# Altium integrated library ADCs_DACs_001.IntLib: 5 symbols
Pins are listed as number, name and electrical type; pins without a type are passive.

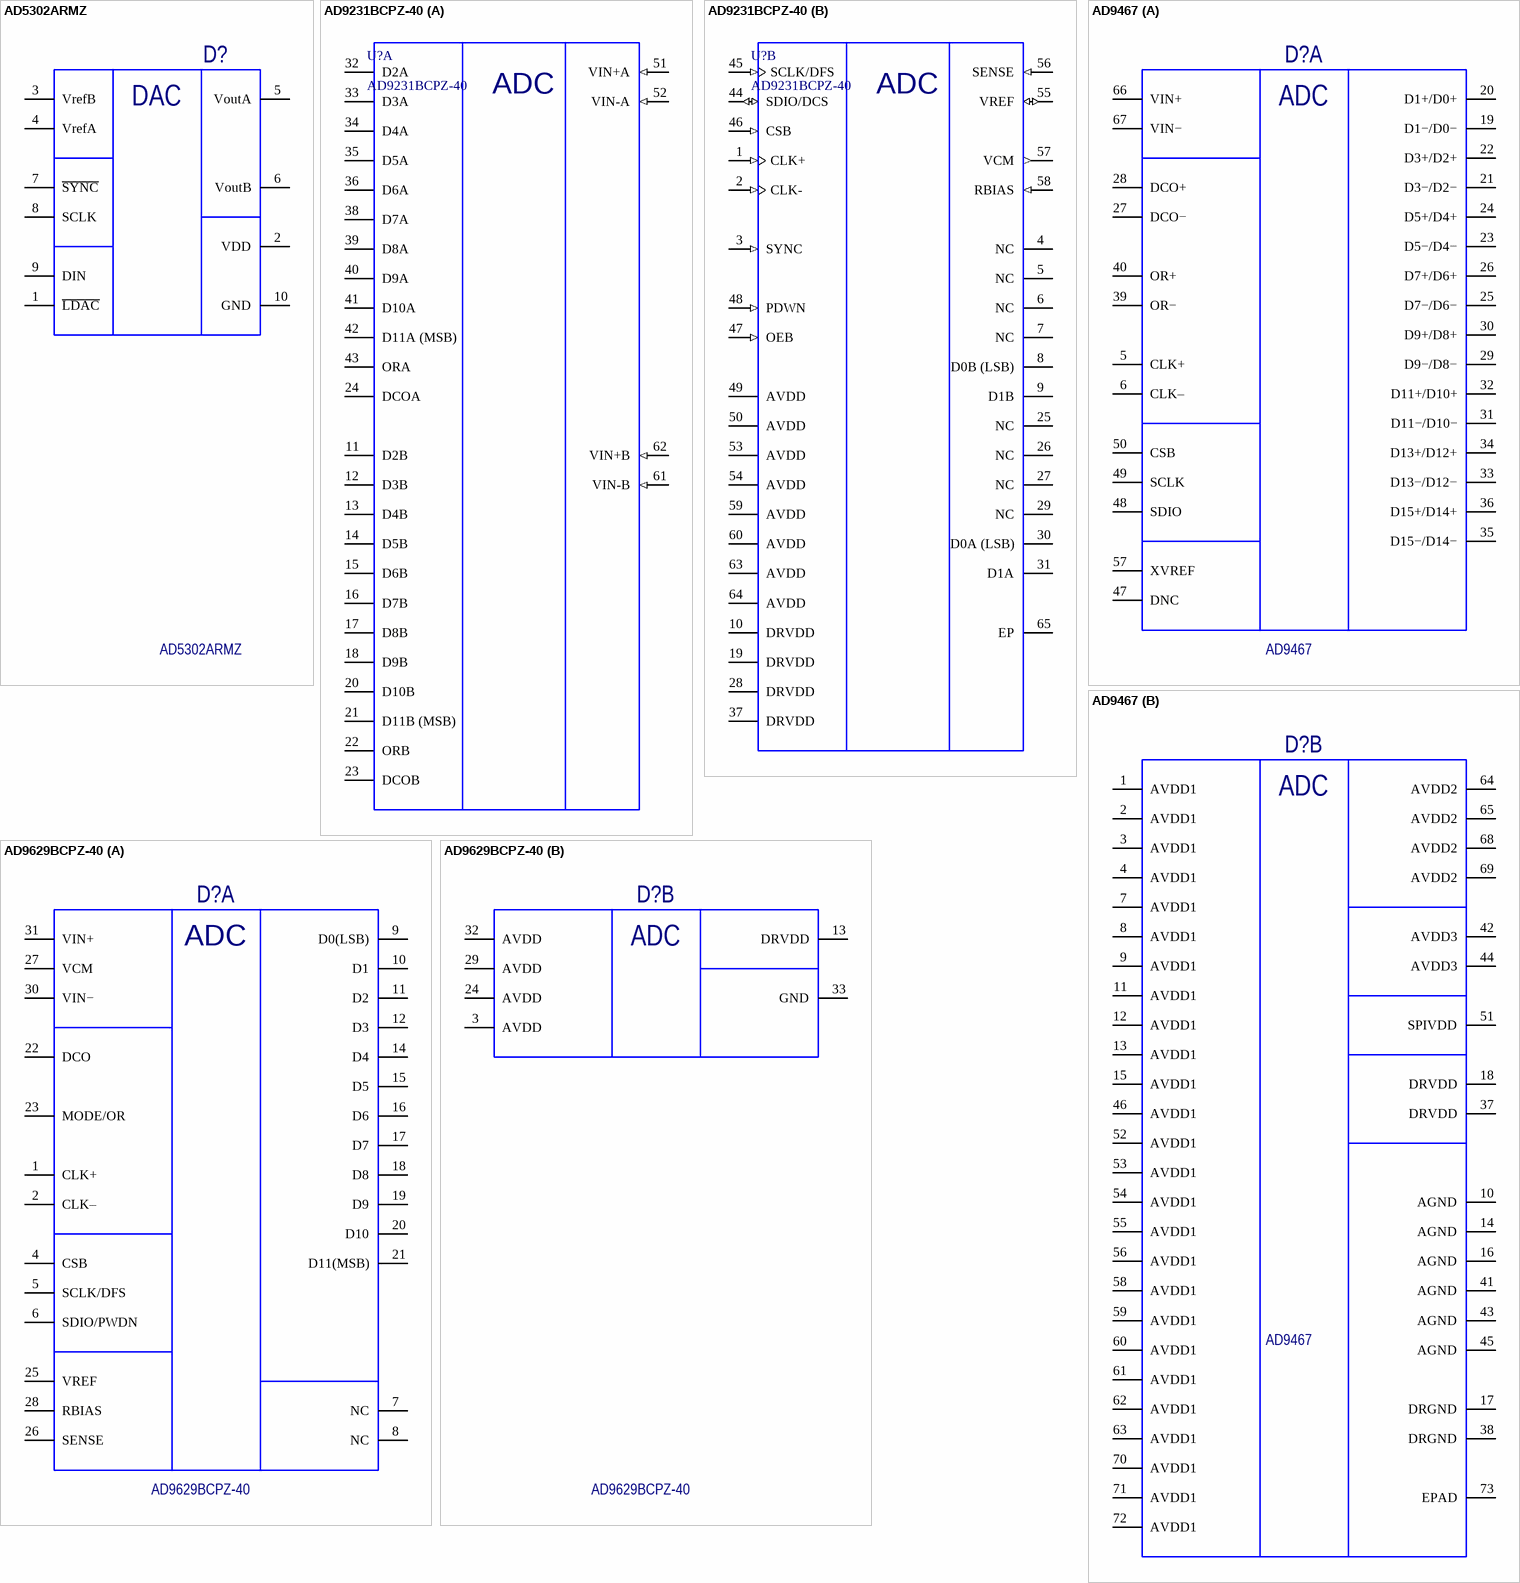
[diagram p0: symbols AD5302ARMZ to AD9629BCPZ-40]

## AD5302ARMZ
designator D?
Digital to Analog Converters - DAC DUAL 8-BIT VOLTAGE OUT DAC I.C.; Vender: Analog Devices; ВП Описание: Микросхема_AD5302ARMZ; Наименование: Микросхема; Part Number: AD5302ARMZ; ComponentLink1Description: DataSheet; ComponentLink1URL: https://eu.mouser.com/datasheet/2/609/AD5302_5312_5322-1501583.pdf; StandartDoc: Analog Devices; ComponentLink2Description: Manufacturer; ComponentLink2URL: https://www.analog.com/en/index.html; ComponentLink3Description: DatasheetLocal; ComponentLink3URL: D:\Work\Altium_Library\NewArcomLibrary\Datasheets\AnalogDevices\AD5302_5312_5322-1501583.pdf; Value: AD5302ARMZ; Manufacturer: Analog Devices; Manufacturer P/N: AD5302ARMZ; Part: AD5302ARMZ
footprint SOP50P490X110-10N
pins: 1 ~{LDAC}, 2 VDD, 3 VrefB, 4 VrefA, 5 VoutA, 6 VoutB, 7 ~{SYNC}, 8 SCLK, 9 DIN, 10 GND
text: DAC

## AD9231BCPZ-40
designator U?
Analog to Digital Converters - ADC 12 Bit, 40 MSPS Dual Low Power ADC; Manufacturer: Analog Devices; ComponentLink1Description: Manufacturer; ComponentLink1URL: http://www.analog.com/; ComponentLink2Description: Datasheet; ComponentLink2URL: https://www.analog.com/media/en/technical-documentation/data-sheets/AD9231.pdf; Manufacturer P/N: AD9231BCPZ-40; Part: AD9231BCPZ-40; Family: Chip
footprint CP-64-4_L (QFN, 64-Leads, Body 9x9mm, Pitch 0.5mm, Thermal Pad 6.2x6.2mm, IPC High Density)
footprint CP-64-4_M (QFN, 64-Leads, Body 9x9mm, Pitch 0.5mm, Thermal Pad 6.2x6.2mm, IPC Low Density)
footprint CP-64-4_N (QFN, 64-Leads, Body 9x9mm, Pitch 0.5mm, Thermal Pad 6.2x6.2mm, IPC Medium Density)
part A pins: 11 D2B (hiz) "Channel B Digital Outputs.D9B = MSB.", 12 D3B (hiz) "Channel B Digital Outputs.D9B = MSB.", 13 D4B (hiz) "Channel B Digital Outputs.D9B = MSB.", 14 D5B (hiz) "Channel B Digital Outputs.D9B = MSB.", 15 D6B (hiz) "Channel B Digital Outputs.D9B = MSB.", 16 D7B (hiz) "Channel B Digital Outputs.D9B = MSB.", 17 D8B (hiz) "Channel B Digital Outputs.D9B = MSB.", 18 D9B (hiz) "Channel B Digital Outputs.D9B = MSB.", 20 D10B (hiz) "Channel B Digital Outputs.D9B = MSB.", 21 D11B (MSB) (hiz) "Channel B Digital Outputs.D9B = MSB.", 22 ORB (hiz) "Channel B Out-of-Range Digital Output.", 23 DCOB (hiz) "Channel B Data Clock Digital Output.", 24 DCOA (hiz) "Channel A Data Clock Digital Output.", 32 D2A (hiz) "Channel A Digital Outputs.D9A = MSB.", 33 D3A (hiz) "Channel A Digital Outputs.D9A = MSB.", 34 D4A (hiz) "Channel A Digital Outputs.D9A = MSB.", 35 D5A (hiz) "Channel A Digital Outputs.D9A = MSB.", 36 D6A (hiz) "Channel A Digital Outputs.D9A = MSB.", 38 D7A (hiz) "Channel A Digital Outputs.D9A = MSB.", 39 D8A (hiz) "Channel A Digital Outputs.D9A = MSB.", 40 D9A (hiz) "Channel A Digital Outputs.D9A = MSB.", 41 D10A (hiz) "Channel A Digital Outputs.D9A = MSB.", 42 D11A (MSB) (hiz) "Channel A Digital Outputs.D9A = MSB.", 43 ORA (hiz) "Channel A Out-of-Range Digital Output.", 51 VIN+A (in) "Channel A Analog Inputs.", 52 VIN-A (in) "Channel A Analog Inputs.", 61 VIN-B (in) "Channel B Analog Inputs.", 62 VIN+B (in) "Channel B Analog Inputs."
part B pins: 1 CLK+ (in) "Differential Encode Clock. PECL, LVDS, or 1.8 V CMOS inputs.", 2 CLK- (in) "Differential Encode Clock. PECL, LVDS, or 1.8 V CMOS inputs.", 3 SYNC (in) "Digital Input. SYNC input to clock divider. 30 k ohm internal pull-down", 4 NC "Do Not Connect.", 5 NC "Do Not Connect.", 6 NC "Do Not Connect.", 7 NC "Do Not Connect.", 8 D0B (LSB) "Do Not Connect.", 9 D1B "Do Not Connect.", 10 DRVDD (power) "Digital Output Driver Supply (1.8 V to 3.3 V).", 19 DRVDD (power) "Digital Output Driver Supply (1.8 V to 3.3 V).", 25 NC "Do Not Connect.", 26 NC "Do Not Connect.", 27 NC "Do Not Connect.", 28 DRVDD (power) "Digital Output Driver Supply (1.8 V to 3.3 V).", 29 NC "Do Not Connect.", 30 D0A (LSB) "Do Not Connect.", 31 D1A "Do Not Connect.", 37 DRVDD (power) "Digital Output Driver Supply (1.8 V to 3.3 V).", 44 SDIO/DCS (io) "SPI Data Input/Output (SDIO). Bidirectional SPI Data I/O in SPI mode. 30 k ohm internal pulldown in SPI mode.  Duty Cycle Stabilizer (DCS). Static enable input for duty cycle stabilizer in non-SPI mode. 30 k ohm  internal (See Datasheet)", 45 SCLK/DFS (in) "SPI Clock (SCLK) Input in SPI mode. 30 k ohm internal pull-down.Data Format Select (DFS). Static control of data output format in non-SPI mode. 30 kO internal pull-down.DFS high = twos complement output.  DFS low = offset (See Datasheet)", 46 CSB (in) "SPI Chip Select. Active low enable; 30 k ohm internal pull-up", 47 OEB (in) "Digital Input. Enable Channel A and Channel B digital outputs if low, three-state outputs if high. 30 kohm internal pull-down.", 48 PDWN (in) "Digital Input. 30 kohm internal pull-down.PDWN high = power-down device.PDWN low = run device, normal operation.", 49 AVDD (power) "1.8 V Analog Supply Pins", 50 AVDD (power) "1.8 V Analog Supply Pins", 53 AVDD (power) "1.8 V Analog Supply Pins", 54 AVDD (power) "1.8 V Analog Supply Pins", 55 VREF (io) "Voltage Reference Input/Output", 56 SENSE (in) "Reference Mode Selection", 57 VCM (out) "Analog output voltage at midsupply to set common mode of the analog inputs.", 58 RBIAS (in) "Sets Analog Current Bias. Connect to 10 kohm (1% tolerance) resistor to ground.", 59 AVDD (power) "1.8 V Analog Supply Pins", 60 AVDD (power) "1.8 V Analog Supply Pins", 63 AVDD (power) "1.8 V Analog Supply Pins", 64 AVDD (power) "1.8 V Analog Supply Pins", 65 EP (power) "Exposed paddle is the only ground connection for the chip. Must be connected to PCB AGND."
part A text: ADC
part B text: ADC

## AD9467
designator D?
Analog to Digital Converters - ADC 16 Bit 250 MSPS ADC; Part Number: AD9467BCPZ-250; Vender: Analog Devices; ВП Описание: Микросхема_AD9467BCPZ-250; Наименование: Микросхема; Value: AD9467; ComponentLink1Description: DataSheet; ComponentLink1URL: d:\Projects\Altium_Components_Lib\Component Data Base\ADC\AD\AD9467.pdf; StandartDoc: Analog Devices; Manufacturer: Analog Devices; Manufacturer P/N: AD9467BCPZ-250; Part: AD9467BCPZ-250
footprint ADI_CP-32-4_L (QFN, 32-Leads, Body 5x5mm, Pitch 0.5mm, Thermal Pad 3.5x3.5mm, IPC High Density)
footprint ADI_CP-32-4_M (QFN, 32-Leads, Body 5x5mm, Pitch 0.5mm, Thermal Pad 3.5x3.5mm, IPC Low Density)
footprint ADI_CP-32-4_N (QFN, 32-Leads, Body 5x5mm, Pitch 0.5mm, Thermal Pad 3.5x3.5mm, IPC Medium Density)
part A pins: 5 CLK+, 6 CLK–, 19 D1−/D0−, 20 D1+/D0+, 21 D3−/D2−, 22 D3+/D2+, 23 D5−/D4−, 24 D5+/D4+, 25 D7−/D6−, 26 D7+/D6+, 27 DCO−, 28 DCO+, 29 D9−/D8−, 30 D9+/D8+, 31 D11−/D10−, 32 D11+/D10+, 33 D13−/D12−, 34 D13+/D12+, 35 D15−/D14−, 36 D15+/D14+, 39 OR−, 40 OR+, 47 DNC, 48 SDIO, 49 SCLK, 50 CSB, 57 XVREF, 66 VIN+, 67 VIN−
part B pins: 1 AVDD1, 2 AVDD1, 3 AVDD1, 4 AVDD1, 7 AVDD1, 8 AVDD1, 9 AVDD1, 10 AGND, 11 AVDD1, 12 AVDD1, 13 AVDD1, 14 AGND, 15 AVDD1, 16 AGND, 17 DRGND, 18 DRVDD, 37 DRVDD, 38 DRGND, 41 AGND, 42 AVDD3, 43 AGND, 44 AVDD3, 45 AGND, 46 AVDD1, 51 SPIVDD, 52 AVDD1, 53 AVDD1, 54 AVDD1, 55 AVDD1, 56 AVDD1, 58 AVDD1, 59 AVDD1, 60 AVDD1, 61 AVDD1, 62 AVDD1, 63 AVDD1, 64 AVDD2, 65 AVDD2, 68 AVDD2, 69 AVDD2, 70 AVDD1, 71 AVDD1, 72 AVDD1, 73 EPAD
part A text: ADC
part B text: ADC

## AD9629BCPZ-40
designator D?
Analog to Digital Converters - ADC 12 Bit 40 Msps Low Pwr ADC; Vender: Analog Devices; ВП Описание: Микросхема_AD9629BCPZ-40; Наименование: Микросхема; Value: AD9629BCPZ-40; Part Number: AD9629BCPZ-40; ComponentLink1Description: DataSheet; StandartDoc: Analog Devices; Part: AD9629BCPZ-40; ComponentLink2Description: Manufacturer; ComponentLink2URL: *; ComponentLink3Description: DatasheetLocal; ComponentLink3URL: *; Manufacturer: Analog Devices; Manufacturer P/N: AD9629BCPZ-40
footprint ADI_CP-32-4_L (QFN, 32-Leads, Body 5x5mm, Pitch 0.5mm, Thermal Pad 3.5x3.5mm, IPC High Density)
footprint ADI_CP-32-4_M (QFN, 32-Leads, Body 5x5mm, Pitch 0.5mm, Thermal Pad 3.5x3.5mm, IPC Low Density)
footprint ADI_CP-32-4_N (QFN, 32-Leads, Body 5x5mm, Pitch 0.5mm, Thermal Pad 3.5x3.5mm, IPC Medium Density)
part A pins: 1 CLK+, 2 CLK–, 4 CSB, 5 SCLK/DFS, 6 SDIO/PWDN, 7 NC, 8 NC, 9 D0(LSB), 10 D1, 11 D2, 12 D3, 14 D4, 15 D5, 16 D6, 17 D7, 18 D8, 19 D9, 20 D10, 21 D11(MSB), 22 DCO, 23 MODE/OR, 25 VREF, 26 SENSE, 27 VCM, 28 RBIAS, 30 VIN−, 31 VIN+
part B pins: 3 AVDD, 13 DRVDD, 24 AVDD, 29 AVDD, 32 AVDD, 33 GND
part A text: ADC
part B text: ADC

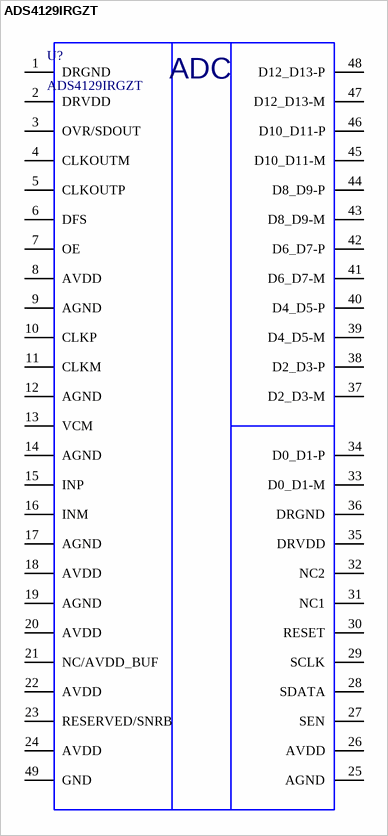
[diagram p1: symbol ADS4129IRGZT]

## ADS4129IRGZT
designator U?
Analog to Digital Converters - ADC 12 bit 250MSPS Low Power ADC; Manufacturer: Texas Instruments; PartNumber: ADS4129IRGZT; Manufacturer P/N: ADS4129IRGZT; Part: ADS4129IRGZT; Value: ADS4129IRGZT
footprint QFN50P700X700X100-49N
pins: 1 DRGND (power), 2 DRVDD (power), 3 OVR/SDOUT (power), 4 CLKOUTM (power), 5 CLKOUTP (power), 6 DFS (power), 7 OE (power), 8 AVDD (power), 9 AGND (power), 10 CLKP (power), 11 CLKM (power), 12 AGND (power), 13 VCM (power), 14 AGND (power), 15 INP (power), 16 INM (power), 17 AGND (power), 18 AVDD (power), 19 AGND (power), 20 AVDD (power), 21 NC/AVDD_BUF (power), 22 AVDD (power), 23 RESERVED/SNRB (power), 24 AVDD (power), 25 AGND (power), 26 AVDD (power), 27 SEN (power), 28 SDATA (power), 29 SCLK (power), 30 RESET (power), 31 NC1 (power), 32 NC2 (power), 33 D0_D1-M (power), 34 D0_D1-P (power), 35 DRVDD (power), 36 DRGND (power), 37 D2_D3-M (power), 38 D2_D3-P (power), 39 D4_D5-M (power), 40 D4_D5-P (power), 41 D6_D7-M (power), 42 D6_D7-P (power), 43 D8_D9-M (power), 44 D8_D9-P (power), 45 D10_D11-M (power), 46 D10_D11-P (power), 47 D12_D13-M (power), 48 D12_D13-P (power), 49 GND (power)
text: ADC